# Altium schematic symbol library Maxim_Integrated_Switching_Regulators.SchLib: 2 symbols
Pins are listed as number, name and electrical type; pins without a type are passive.

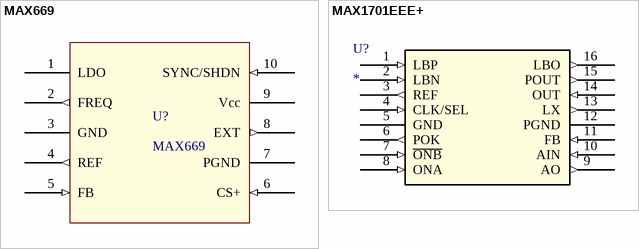
[diagram p0: symbols MAX669 to MAX1701EEE+]

## MAX669
designator U?
1.8V to 28V Input, PWM Step-Up  Controllers in μMAX; Supplier 1: Octopart; Supplier 2: Octopart; Supplier Part Number 1: Mouser - 700-MAX669EUB; Supplier Part Number 2: Digi-Key - MAX669EUB+-ND; datasheet: http://datasheets.maximintegrated.com/en/ds/MAX668-MAX669.pdf
footprint uMax 10
pins: 1 LDO (power) "5V On-Chip Regulator Output. This regulator powers all internal circuitry including the EXT gate driver.  Bypass LDO to GND with a 1μF or greater ceramic capacitor.", 2 FREQ (out) "Oscillator Frequency Set Input. A resistor from FREQ to GND sets the oscillator from 100kHz (ROSC =  500kΩ) to 500kHz (ROSC = 100kΩ). fOSC = 5 x 1010 / ROSC. ROSC is still required if an external clock is used  at SYNC/SHDN. (See SYNC/SHDN and FREQ Inputs section.)", 3 GND (power) "Analog Ground", 4 REF (out) "1.25V Reference Output. REF can source 50μA. Bypass to GND with a 0.22μF ceramic capacitor.", 5 FB (in) "Feedback Input. The FB threshold is 1.25V.", 6 CS+ (in) "Positive Current-Sense Input. Connect a current-sense resistor, RCS, between CS+ and PGND", 7 PGND (power) "Power Ground for EXT Gate Driver and Negative Current-Sense Input", 8 EXT (out) "External MOSFET Gate-Driver Output. EXT swings from LDO to PGND.", 9 Vcc (power) "Input Supply to On-Chip LDO Regulator. VCC accepts inputs up to 28V. Bypass to GND with a 0.1μF ceramic  capacitor.", 10 SYNC/SHDN (in) "Shutdown control and Synchronization Input."

## MAX1701EEE+
designator U?
Switching Voltage Regulators 1-3 Cell 1A Step-Up DC/DC Converters; Manufacturer Part Number: MAX1701EEE+; Manufacturer: Maxim; Input Voltage Range: 0.7V - 5.5V; Output Voltage Range: 2.5V - 5.5V; Maximum Efficiency: 96%; Internal Frequency: 300KHz; Number of Outputs: 1; Topology: Boost/Buck; Load Regulation: -1.6%; Datasheet: https://datasheets.maximintegrated.com/en/ds/MAX1700-MAX1701.pdf; Supplier 1: Mouser; Supplier Part Number 1: 700-MAX1701EEE; Supplier 2: Digi-Key; Supplier Part Number 2: MAX1701EEE+-ND; Maximum Output Current: 1A; Minimum Operating Temperature: -40C; Maximum Operating Temperature: +125C
footprint 21-0055H_16-M
pins: 1 LBP (in) "Low-Battery Comparator Non-Inverting Input", 2 LBN (in) "Low-Battery Comparator Inverting Input", 3 REF (out) "Reference Output. Bypass with a 0.22μF capacitor to GND. REF can source up to  50μA.", 4 CLK/SEL (in) "Switching-Mode Selection and External-Clock Synchronization Inputs.", 5 GND (power) "Ground", 6 POK (out) "Power-Okay Comparator Output. Open drain N-channel output is low when VOUT is  10% below regulation point. No internal delay is provided.", 7 ~{ONB} (in) "Shutdown Input. When ONB =high and ONA=low, the IC is off and the load is connected  to the battery through the Schottky diode.", 8 ONA (in) "Turn ON Input. When ONA=high or ONB =low, the IC turns on.", 9 AO (out) "Gain Block Output. This open-drain output sinks when VAIN <VREF.", 10 AIN (in) "Gain Block AIN input. When AIN is low, AO sinks current. The transconductance from  AIN to AO is 9mmhos.", 11 FB (in) "DC-DC Converter Dual-Mode Feedback Input. For a fixed output voltage of +3.3V,  connect FB to GND. For adjustable output, connect a divider between POUT and GND  to set the output voltage in the range of 2.5V to 5V.", 12 PGND (power) "Source of N-Channel Power MOSFET Switch. Connect to high-current ground path.", 13 LX (out) "Drain of P-Channel Synchronous Rectifier and N-Channel Switch", 14 OUT (in) "Output Sense Input. Power source for the IC.", 15 POUT (out) "Source of P-Channel Synchronous Rectifier MOSFET Switch. Connect an external  Schottky diode from LX to POUT.", 16 LBO (out) "Low-Battery Comparator Output. Open-drain N-channel output is low when LBN > LBP  Input hysteresis is 15mV."